# EAGLE library part 84-0023-001T (library work)
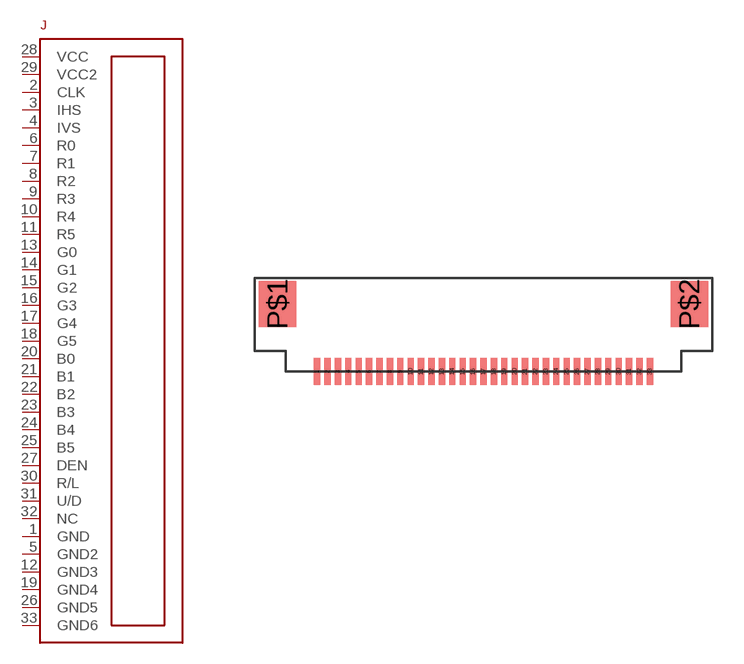
[diagram p39: symbol with the pads of 33-FPC; footprint 33-FPC]

Designator prefix J

## 84-0023-001T  [33-FPC]
1  GND
2  CLK
3  IHS
4  IVS
5  GND2
6  R0
7  R1
8  R2
9  R3
10  R4
11  R5
12  GND3
13  G0
14  G1
15  G2
16  G3
17  G4
18  G5
19  GND4
20  B0
21  B1
22  B2
23  B3
24  B4
25  B5
26  GND5
27  DEN
28  VCC
29  VCC2
30  R/L
31  U/D
32  NC
33  GND6

## Footprint 33-FPC (pad centres in mm)
smd 0.3 x 1.3: 1 -8,0; 2 -7.5,0; 3 -7,0; 4 -6.5,0; 5 -6,0; 6 -5.5,0; 7 -5,0; 8 -4.5,0; 9 -4,0; 10 -3.5,0; 11 -3,0; 12 -2.5,0; 13 -2,0; 14 -1.5,0; 15 -1,0; 16 -0.5,0; 17 0,0; 18 0.5,0; 19 1,0; 20 1.5,0; 21 2,0; 22 2.5,0; 23 3,0; 24 3.5,0; 25 4,0; 26 4.5,0; 27 5,0; 28 5.5,0; 29 6,0; 30 6.5,0; 31 7,0; 32 7.5,0; 33 8,0
smd 1.8 x 2.2: P$1 -9.9,3.25; P$2 9.9,3.25